# Altium schematic symbol library SCH - LED - Harvatek B38G3RGB-10D0003H2U1930.SCHLIB: 1 symbol
Pins are listed as number, name and electrical type; pins without a type are passive.

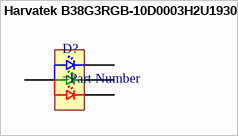
[diagram p0: symbol Harvatek B38G3RGB-10D0003H2U1930]

## Harvatek B38G3RGB-10D0003H2U1930
designator D?
pins: 1 GREEN, 2 BLUE, 3 ANODE, 4 RED